# EAGLE library part EL7222 (library di_ic)
Intersil - EL7222 - High Speed, Dual Channel Power MOSFET Drivers http://www.intersil.com/data/fn/fn7282.pdf
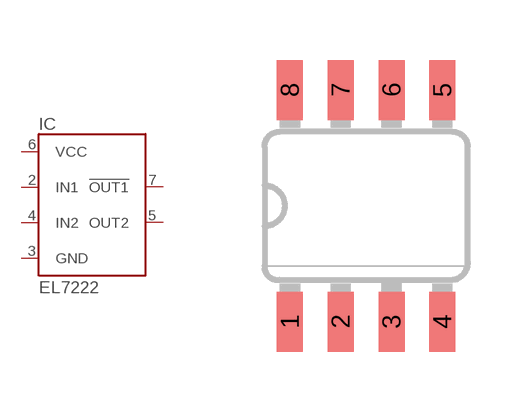
[diagram p47: symbol with the pads of SO08N; footprint SO08N]

Designator prefix IC

## EL7222  [SO08N]
2  IN1  in
3  GND  pwr
4  IN2  in
5  OUT2  out
6  VCC  pwr
7  !OUT1  out

## Footprint SO08N (pad centres in mm)
smd 0.65 x 1.5: 1 -1.905,-2.9; 2 -0.635,-2.9; 3 0.635,-2.9; 4 1.905,-2.9; 5 1.905,2.9; 6 0.635,2.9; 7 -0.635,2.9; 8 -1.905,2.9